# EAGLE library part A9833 (library AD9833)
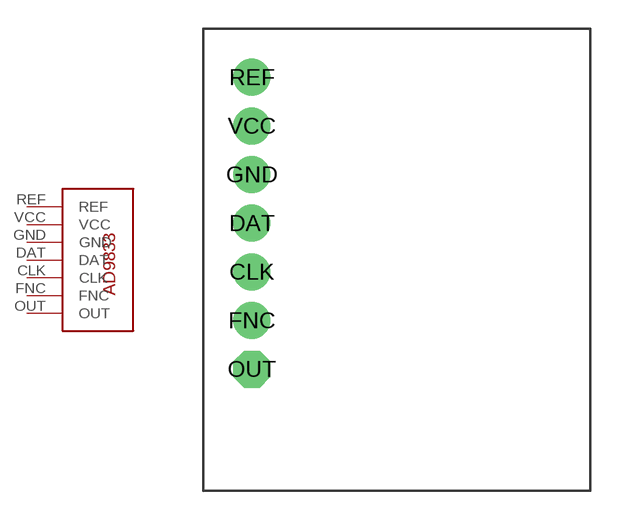
[diagram p0: symbol with the pads of AD9833; footprint AD9833]

Designator prefix -

## A9833  [AD9833]
CLK  CLK
DAT  DAT
FNC  FNC
GND  GND
OUT  OUT
REF  REF
VCC  VCC

## Footprint AD9833 (pad centres in mm)
drill 0.8 pad 1.93: CLK 0,5.08; DAT 0,7.62; FNC 0,2.54; GND 0,10.16; REF 0,15.24; VCC 0,12.7
drill 0.8 pad 1.93 octagon: OUT 0,0